# Altium footprint library ICLib.PcbLib: 8 footprints
Each footprint in its own frame and in the unit in brackets; x right, y up, seen from the top. Pads: shape width x height; smd on the part's side, far side on the other; paste and mask are expansions set on the pad; w line width, h text height; cw(c..) or ccw(c..) is an arc to the next point about the centre after c.
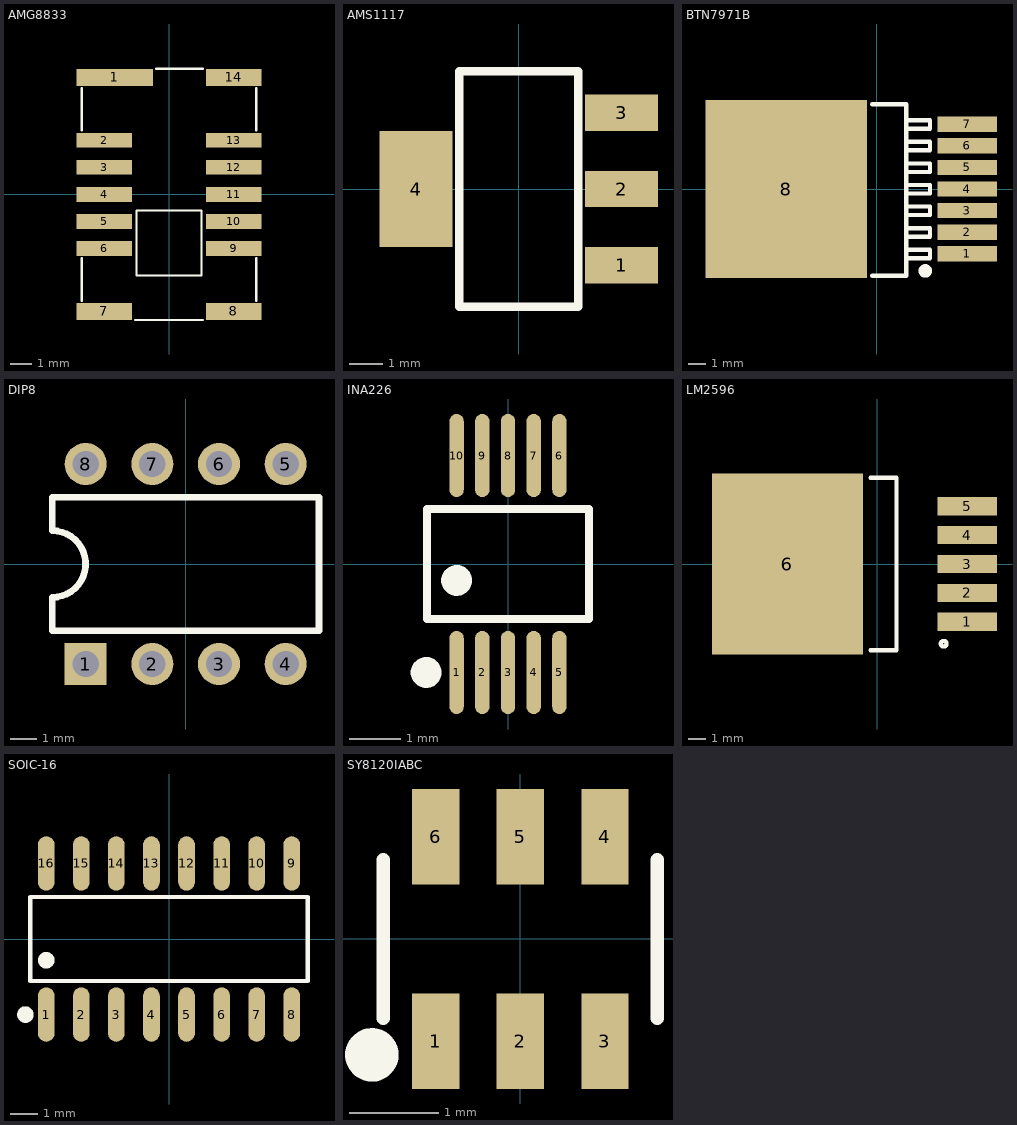
[diagram p0: the footprints below, top view; thin cyan lines are the x and y axes]

## AMG8833 [mm]
pads (14):
  rect 3.6x0.8 smd: 1(-2.55,5.5)
  rect 2.6x0.7 smd: 2(-3.05,2.54) 3(-3.05,1.27) 4(-3.05,0) 5(-3.05,-1.27) 6(-3.05,-2.54) 9(3.05,-2.54) 10(3.05,-1.27) 11(3.05,0) 12(3.05,1.27) 13(3.05,2.54)
  rect 2.6x0.8 smd: 7(-3.05,-5.5) 8(3.05,-5.5) 14(3.05,5.5)
Top Overlay:
  lines w0.1: -4.1,-5 -4.1,-3 ; -4.1,3 -4.1,5 ; -1.6,-5.9 1.6,-5.9 ; -0.6,5.9 1.6,5.9 ; 4.1,-5 4.1,-3 ; 4.1,3 4.1,5 ; -1.524,-3.81 1.524,-3.81 1.524,-0.762 -1.524,-0.762 -1.524,-3.81

## AMS1117 [mm]
pads (4):
  rect 2.2x1.1 smd: 1(3.099,-2.3) 2(3.099,0) 3(3.099,2.3)
  rect 2.2x3.5 smd: 4(-3.099,0)
Top Overlay:
  lines w0.254: -1.8,-3.55 -1.8,3.55 1.8,3.55 1.8,-3.55 -1.8,-3.55

## BTN7971B [mm]
pads (8):
  rect 3.5x0.9 smd: 1(5.334,-3.81) 2(5.334,-2.54) 3(5.334,-1.27) 4(5.334,0) 5(5.334,1.27) 6(5.334,2.54) 7(5.334,3.81)
  rect 9.5x10.5 smd: 8(-5.334,0)
Top Overlay:
  lines w0.254: -0.266,-5.1 1.734,-5.1 1.734,5 -0.266,5 ; 1.734,-4.075 3.134,-4.075 3.134,-3.575 1.734,-3.575 ; 1.734,-2.805 3.134,-2.805 3.134,-2.305 1.734,-2.305 ; 1.734,-1.535 3.134,-1.535 3.134,-1.035 1.734,-1.035 ; 1.734,-0.265 3.134,-0.265 3.134,0.235 1.734,0.235 ; 1.734,1.005 3.134,1.005 3.134,1.505 1.734,1.505 ; 1.734,2.275 3.134,2.275 3.134,2.775 1.734,2.775 ; 1.734,3.545 3.134,3.545 3.134,4.045 1.734,4.045
  lines w0.4: 2.86,-4.625 ccw(c2.861,-4.825) 2.863,-4.625

## DIP8 [mil]
pads (8):
  rect 63x63 hole 39.37: 1(-150,-150)
  round 63 hole 39.37: 2(-50,-150) 3(50,-150) 4(150,-150) 5(150,150) 6(50,150) 7(-50,150) 8(-150,150)
Top Overlay:
  lines w10: -200,-100 -200,-50 ccw(c-200,0) -200,50 -200,100 200,100 200,-100 -200,-100

## INA226 [mm]
pads (10):
  oval 0.28x1.616 smd: 1(-1,-2.11) 2(-0.5,-2.11) 3(0,-2.11) 4(0.5,-2.11) 5(1,-2.11) 6(1,2.11) 7(0.5,2.11) 8(0,2.11) 9(-0.5,2.11) 10(-1,2.11)
Top Overlay:
  circle w0.3: c-1.592,-2.11 r0.15
  circle w0.3: c-1,-0.319 r0.15
  lines w0.152: -1.576,-1.071 1.576,-1.071 1.576,1.071 -1.576,1.071 -1.576,-1.071

## LM2596 [mm]
pads (6):
  rect 3.5x1.069 smd: 1(5.3,-3.404) 2(5.3,-1.702) 3(5.3,0) 4(5.3,1.702) 5(5.3,3.404)
  rect 8.89x10.66 smd: 6(-5.3,0)
Top Overlay:
  circle w0.254: c3.907,-4.699 r0.165
  lines w0.254: -0.411,-5.08 1.126,-5.08 1.126,5.08 -0.411,5.08

## SOIC-16 [mm]
pads (16):
  oval 0.602x1.971 smd: 1(-4.445,-2.736) 2(-3.175,-2.736) 3(-1.905,-2.736) 4(-0.635,-2.736) 5(0.635,-2.736) 6(1.905,-2.736) 7(3.175,-2.736) 8(4.445,-2.736) 9(4.445,2.736) 10(3.175,2.736) 11(1.905,2.736) 12(0.635,2.736) 13(-0.635,2.736) 14(-1.905,2.736) 15(-3.175,2.736) 16(-4.445,2.736)
Top Overlay:
  circle w0.3: c-5.198,-2.736 r0.15
  circle w0.3: c-4.445,-0.769 r0.15
  lines w0.152: -5.026,-1.521 5.026,-1.521 5.026,1.521 -5.026,1.521 -5.026,-1.521

## SY8120IABC [mm]
pads (6):
  rect 0.532x1.072 smd: 1(-0.95,-1.149) 2(0,-1.149) 3(0.95,-1.149) 4(0.95,1.149) 5(0,1.149) 6(-0.95,1.149)
Top Overlay:
  circle w0.3: c-1.668,-1.301 r0.15
  lines w0.152: -1.539,-0.889 -1.539,0.889 ; 1.539,-0.889 1.539,0.889